# EAGLE library part 505433-0871 (library RescueRunner)
CONN HEADER SMD 8POS 1.25MM Source: Datasheet <https://www.molex.com/pdm_docs/sd/5054330871_sd.pdf>
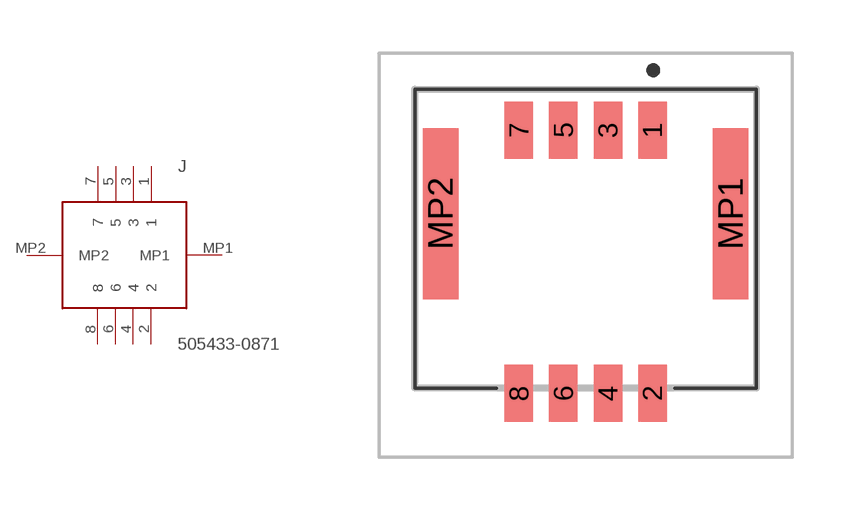
[diagram p11: symbol with the pads of 5054330871; footprint 5054330871]

Designator prefix J

## 505433-0871 (DESCRIPTION: CONN HEADER SMD 8POS 1.25MM; HEIGHT: 7.25mm; MANUFACTURER_NAME: Molex; MANUFACTURER_PART_NUMBER: 5054330871)  [5054330871]
1  1
2  2
3  3
4  4
5  5
6  6
7  7
8  8
MP1  MP1
MP2  MP2

## Footprint 5054330871 (pad centres in mm)
5054330871-3
smd 0.8 x 1.6: 1 1.875,3.517; 2 1.875,-3.873; 3 0.625,3.517; 4 0.625,-3.873; 5 -0.625,3.517; 6 -0.625,-3.873; 7 -1.875,3.517; 8 -1.875,-3.873
smd 1 x 4.8: MP1 4.075,1.177; MP2 -4.075,1.177